# Altium schematic symbol library LM2596.SchLib: 1 symbol
Pins are listed as number, name and electrical type; pins without a type are passive.

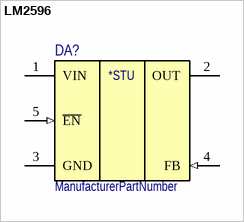
[diagram p0: symbol LM2596]

## LM2596
designator DA?  (value not drawn)
ManufacturerPartNumber: ManufacturerPartNumber
pins: 1 VIN (power), 2 OUT (power), 3 GND (power), 4 FB (in), 5 ~{EN} (in), 6 (power) hidden to GND
text: *STU